# Altium footprint library TOxx.PcbLib: 93 footprints (part 5 of 6)
Each footprint in its own frame and in the unit in brackets; x right, y up, seen from the top. Pads: shape width x height; smd on the part's side, far side on the other; paste and mask are expansions set on the pad; w line width, h text height; cw(c..) or ccw(c..) is an arc to the next point about the centre after c.
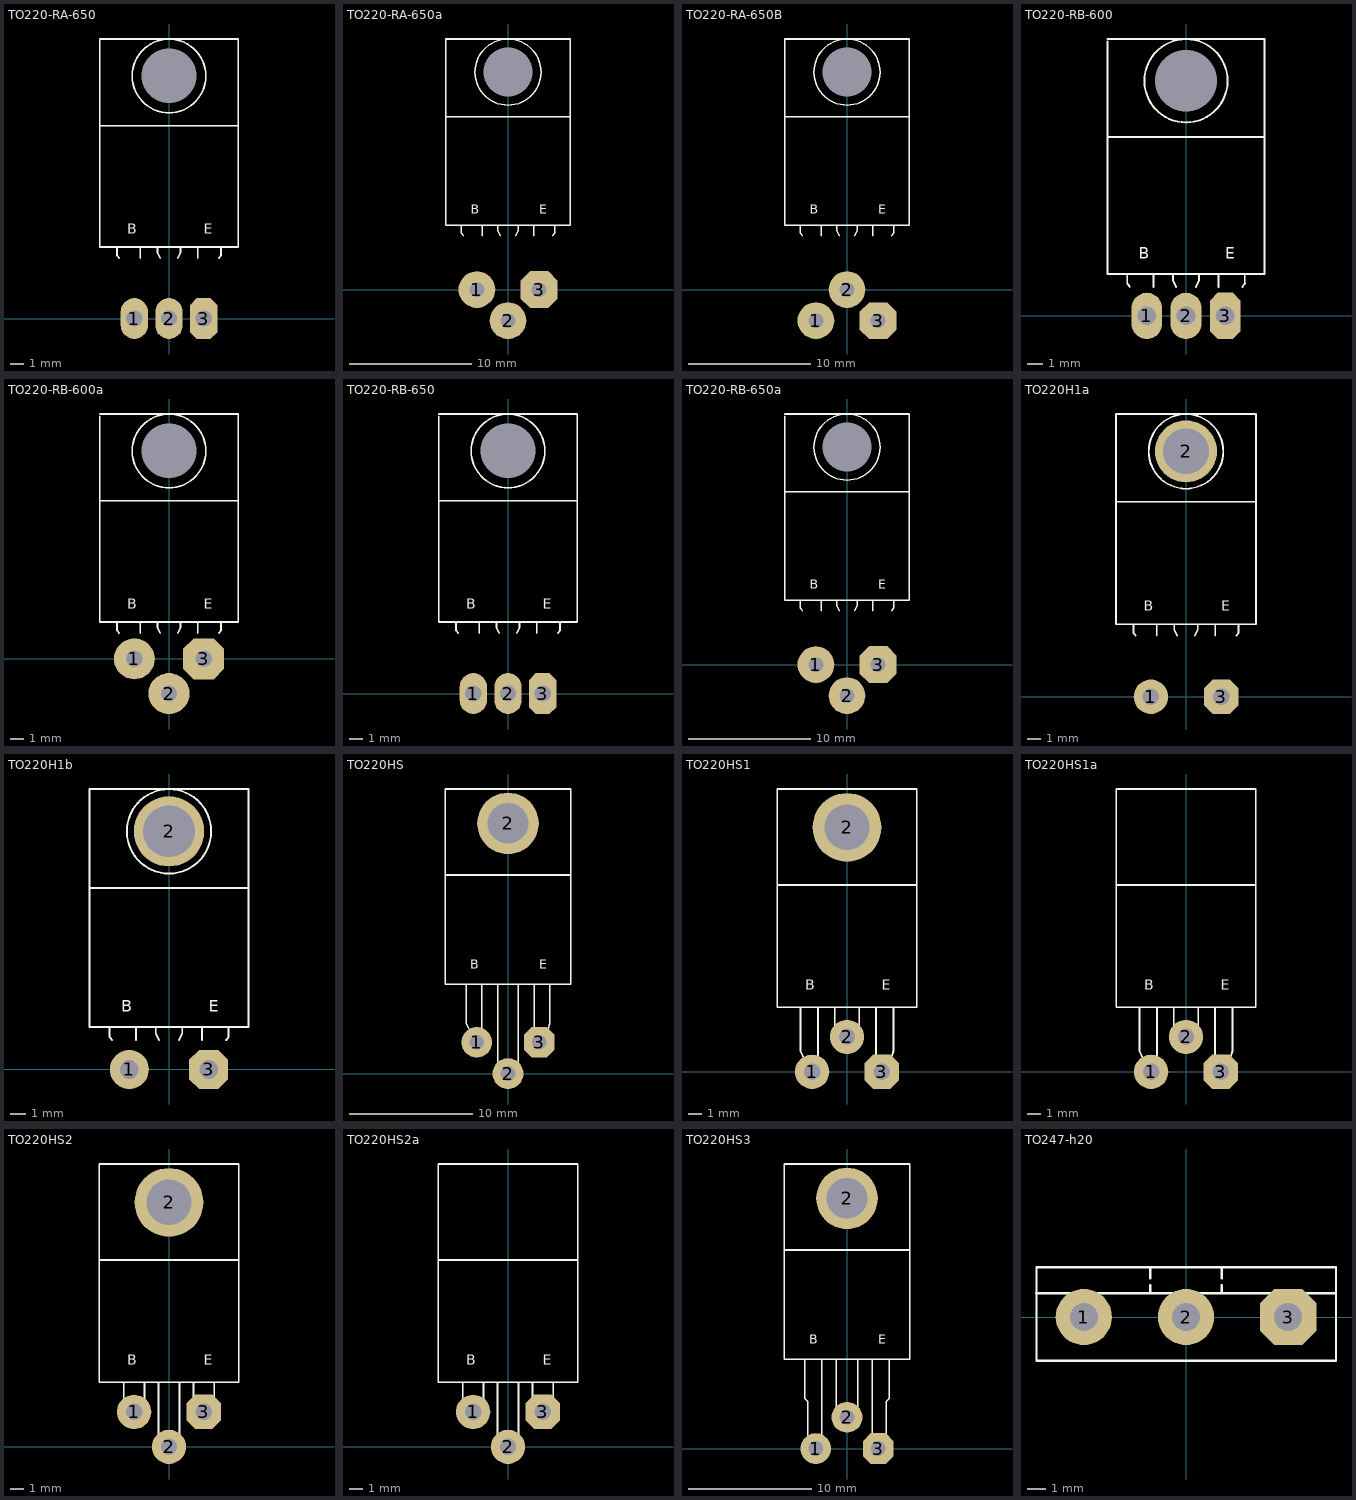
[diagram p4: the footprints below, top view; thin cyan lines are the x and y axes]

## TO220-RA-650 [mm]
pads (4):
  round 0 hole 4 unplated: 0(0,17.78)
  oval 2x3 hole 1.2: 1(-2.54,0) 2(0,0)
  oct 2x3 hole 1.2: 3(2.54,0)
TopOverlay:
  circle w0.125: c0,17.78 r2.7
  lines w0.125: -5.08,14.139 5.08,14.139 ; -3.81,4.614 -3.81,5.249 ; -3.762,4.582 -3.647,4.421 ; -2.117,4.421 -2.117,5.249 ; -0.847,5.249 -0.847,4.826 -0.635,4.421 ; 0.635,4.421 0.847,4.826 0.847,5.249 ; 2.117,4.421 2.117,5.249 ; 3.655,4.421 3.818,4.638 ; 3.81,4.614 3.81,5.249 ; -5.08,5.249 5.08,5.249 5.08,20.489 -5.08,20.489 -5.08,5.249
  text "B" at -3.048,5.969 h1.27
  text "E" at 2.54,5.969 h1.27
3D body: height 4.45, standoff -1.79, extent -5.08,-0.19 5.08,20.36

## TO220-RA-650a [mm]
pads (4):
  round 0 hole 4 unplated: 0(0,17.78)
  round 3 hole 1.2: 1(-2.54,0) 2(0,-2.54)
  oct 3x3 hole 1.2: 3(2.54,0)
TopOverlay:
  circle w0.125: c0,17.78 r2.7
  lines w0.125: -5.08,14.139 5.08,14.139 ; -3.81,4.614 -3.81,5.249 ; -3.762,4.582 -3.647,4.421 ; -2.117,4.421 -2.117,5.249 ; -0.847,5.249 -0.847,4.826 -0.635,4.421 ; 0.635,4.421 0.847,4.826 0.847,5.249 ; 2.117,4.421 2.117,5.249 ; 3.655,4.421 3.818,4.638 ; 3.81,4.614 3.81,5.249 ; -5.08,5.249 5.08,5.249 5.08,20.489 -5.08,20.489 -5.08,5.249
  text "B" at -3.048,5.969 h1.27
  text "E" at 2.54,5.969 h1.27
3D body: height 4.45, standoff -1.79, extent -5.08,-0.19 5.08,20.36

## TO220-RA-650B [mm]
pads (4):
  round 0 hole 4 unplated: 0(0,17.78)
  round 3 hole 1.2: 1(-2.54,-2.54) 2(0,0)
  oct 3x3 hole 1.2: 3(2.54,-2.54)
TopOverlay:
  circle w0.125: c0,17.78 r2.7
  lines w0.125: -5.08,14.139 5.08,14.139 ; -3.81,4.614 -3.81,5.249 ; -3.762,4.582 -3.647,4.421 ; -2.117,4.421 -2.117,5.249 ; -0.847,5.249 -0.847,4.826 -0.635,4.421 ; 0.635,4.421 0.847,4.826 0.847,5.249 ; 2.117,4.421 2.117,5.249 ; 3.655,4.421 3.818,4.638 ; 3.81,4.614 3.81,5.249 ; -5.08,5.249 5.08,5.249 5.08,20.489 -5.08,20.489 -5.08,5.249
  text "B" at -3.048,5.969 h1.27
  text "E" at 2.54,5.969 h1.27
3D body: height 4.45, standoff -1.79, extent -5.08,-0.19 5.08,20.36

## TO220-RB-600 [mm]
pads (4):
  round 0 hole 4 unplated: 0(0,15.24)
  oval 2x3 hole 1.2: 1(-2.54,0) 2(0,0)
  oct 2x3 hole 1.2: 3(2.54,0)
TopOverlay:
  circle w0.125: c0,15.24 r2.7
  lines w0.125: -5.08,11.599 5.08,11.599 ; -5.08,17.78 -5.08,2.709 5.08,2.709 5.08,17.949 -5.08,17.949 ; -3.81,2.074 -3.81,2.709 ; -3.762,2.042 -3.647,1.881 ; -2.117,1.881 -2.117,2.709 ; -0.847,2.709 -0.847,2.286 -0.635,1.881 ; 0.635,1.881 0.847,2.286 0.847,2.709 ; 2.117,1.881 2.117,2.709 ; 3.655,1.881 3.818,2.098 ; 3.81,2.074 3.81,2.709
  text "B" at -3.048,3.429 h1.27
  text "E" at 2.54,3.429 h1.27
3D body: height 0.82, standoff -6.5, extent -5.08,-0.19 5.08,17.78

## TO220-RB-600a [mm]
pads (4):
  round 0 hole 4 unplated: 0(0,15.24)
  round 3 hole 1.2: 1(-2.54,0) 2(0,-2.54)
  oct 3x3 hole 1.2: 3(2.54,0)
TopOverlay:
  circle w0.125: c0,15.24 r2.7
  lines w0.125: -5.08,11.599 5.08,11.599 ; -5.08,17.78 -5.08,2.709 5.08,2.709 5.08,17.949 -5.08,17.949 ; -3.81,2.074 -3.81,2.709 ; -3.762,2.042 -3.647,1.881 ; -2.117,1.881 -2.117,2.709 ; -0.847,2.709 -0.847,2.286 -0.635,1.881 ; 0.635,1.881 0.847,2.286 0.847,2.709 ; 2.117,1.881 2.117,2.709 ; 3.655,1.881 3.818,2.098 ; 3.81,2.074 3.81,2.709
  text "B" at -3.048,3.429 h1.27
  text "E" at 2.54,3.429 h1.27
3D body: height 0.82, standoff -6.5, extent -5.08,-0.19 5.08,17.78

## TO220-RB-650 [mm]
pads (4):
  round 0 hole 4 unplated: 0(0,17.78)
  oval 2x3 hole 1.2: 1(-2.54,0) 2(0,0)
  oct 2x3 hole 1.2: 3(2.54,0)
TopOverlay:
  circle w0.125: c0,17.78 r2.7
  lines w0.125: -5.08,14.139 5.08,14.139 ; -5.08,20.32 -5.08,5.249 5.08,5.249 5.08,20.489 -5.08,20.489 ; -3.81,4.614 -3.81,5.249 ; -3.762,4.582 -3.647,4.421 ; -2.117,4.421 -2.117,5.249 ; -0.847,5.249 -0.847,4.826 -0.635,4.421 ; 0.635,4.421 0.847,4.826 0.847,5.249 ; 2.117,4.421 2.117,5.249 ; 3.655,4.421 3.818,4.638 ; 3.81,4.614 3.81,5.249
  text "E" at 2.54,5.969 h1.27
  text "B" at -3.048,5.969 h1.27
3D body: height 0.22, standoff -6.5, extent -5.08,-0.19 5.08,20.36

## TO220-RB-650a [mm]
pads (4):
  round 0 hole 4 unplated: 0(0,17.78)
  round 3 hole 1.2: 1(-2.54,0) 2(0,-2.54)
  oct 3x3 hole 1.2: 3(2.54,0)
TopOverlay:
  circle w0.125: c0,17.78 r2.7
  lines w0.125: -5.08,14.139 5.08,14.139 ; -5.08,20.32 -5.08,5.249 5.08,5.249 5.08,20.489 -5.08,20.489 ; -3.81,4.614 -3.81,5.249 ; -3.762,4.582 -3.647,4.421 ; -2.117,4.421 -2.117,5.249 ; -0.847,5.249 -0.847,4.826 -0.635,4.421 ; 0.635,4.421 0.847,4.826 0.847,5.249 ; 2.117,4.421 2.117,5.249 ; 3.655,4.421 3.818,4.638 ; 3.81,4.614 3.81,5.249
  text "B" at -3.048,5.969 h1.27
  text "E" at 2.54,5.969 h1.27
3D body: height 0.22, standoff -6.5, extent -5.08,-0.19 5.08,20.36

## TO220H1a [mm]
pads (3):
  round 2.5 hole 1.2: 1(-2.54,0)
  round 4.5 hole 3.302: 2(0,17.78)
  oct 2.5x2.5 hole 1.2: 3(2.54,0)
TopOverlay:
  circle w0.125: c0,17.78 r2.7
  lines w0.125: -5.08,14.139 5.08,14.139 ; -3.81,4.614 -3.81,5.249 ; -3.762,4.582 -3.647,4.421 ; -2.117,4.421 -2.117,5.249 ; -0.847,5.249 -0.847,4.826 -0.635,4.421 ; 0.635,4.421 0.847,4.826 0.847,5.249 ; 2.117,4.421 2.117,5.249 ; 3.655,4.421 3.818,4.638 ; 3.81,4.614 3.81,5.249 ; -5.08,5.249 5.08,5.249 5.08,20.489 -5.08,20.489 -5.08,5.249
  text "B" at -3.048,5.969 h1.27
  text "E" at 2.54,5.969 h1.27
3D body: height 4.45, standoff -1.79, extent -5.08,-0.1 5.08,20.32

## TO220H1b [mm]
pads (3):
  round 2.5 hole 1.2: 1(-2.54,0)
  round 4.5 hole 3.302: 2(0,15.24)
  oct 2.5x2.5 hole 1.2: 3(2.54,0)
TopOverlay:
  circle w0.125: c0,15.24 r2.7
  lines w0.125: -5.08,11.599 5.08,11.599 ; -3.81,2.074 -3.81,2.709 ; -3.762,2.042 -3.647,1.881 ; -2.117,1.881 -2.117,2.709 ; -0.847,2.709 -0.847,2.286 -0.635,1.881 ; 0.635,1.881 0.847,2.286 0.847,2.709 ; 2.117,1.881 2.117,2.709 ; 3.655,1.881 3.818,2.098 ; 3.81,2.074 3.81,2.709 ; -5.08,2.709 5.08,2.709 5.08,17.949 -5.08,17.949 -5.08,2.709
  text "B" at -3.048,3.429 h1.27
  text "E" at 2.54,3.429 h1.27
3D body: height 4.45, standoff -1.79, extent -5.105,-0.34 5.055,17.78

## TO220HS [mm]
pads (4):
  round 2.5 hole 1.2: 1(-2.54,2.54) 2(0,0)
  round 5 hole 3.3: 2(0,20.32)
  oct 2.5x2.5 hole 1.2: 3(2.54,2.54)
TopOverlay:
  lines w0.125: -5.08,16.129 5.08,16.129 ; -3.387,7.239 -3.387,4.064 -3.195,3.659 ; -2.117,3.659 -2.117,7.239 ; -0.847,0.254 -0.847,7.239 ; 0.847,0.254 0.847,7.239 ; 2.117,3.659 2.117,7.239 ; 3.251,3.659 3.387,4.064 3.387,7.239 ; -5.08,7.239 5.08,7.239 5.08,23.114 -5.08,23.114 -5.08,7.239
  text "B" at -3.048,8.255 h1.27
  text "E" at 2.54,8.255 h1.27

## TO220HS1 [mm]
pads (4):
  round 2.5 hole 1.2: 1(-2.54,0) 2(0,2.54)
  round 5 hole 3.3: 2(0,17.78)
  oct 2.5x2.5 hole 1.2: 3(2.54,0)
TopOverlay:
  lines w0.125: -5.08,13.589 5.08,13.589 ; -3.387,4.699 -3.387,1.524 -3.195,1.119 ; -2.117,1.119 -2.117,4.699 ; -0.889,2.54 -0.889,4.699 ; 0.889,2.54 0.889,4.699 ; 2.117,1.119 2.117,4.699 ; 3.251,1.119 3.387,1.524 3.387,4.699 ; -5.08,4.699 -5.08,20.574 5.08,20.574 5.08,4.699 -5.08,4.699
  text "E" at 2.54,5.715 h1.27
  text "B" at -3.048,5.715 h1.27

## TO220HS1a [mm]
pads (3):
  round 2.5 hole 1.2: 1(-2.54,0) 2(0,2.54)
  oct 2.5x2.5 hole 1.2: 3(2.54,0)
TopOverlay:
  lines w0.125: -5.08,13.589 5.08,13.589 ; -3.387,4.699 -3.387,1.524 -3.195,1.119 ; -2.117,1.119 -2.117,4.699 ; -0.889,2.54 -0.889,4.699 ; 0.889,2.54 0.889,4.699 ; 2.117,1.119 2.117,4.699 ; 3.251,1.119 3.387,1.524 3.387,4.699 ; -5.08,4.699 5.08,4.699 5.08,20.574 -5.08,20.574 -5.08,4.699
  text "B" at -3.048,5.715 h1.27
  text "E" at 2.54,5.715 h1.27

## TO220HS2 [mm]
pads (4):
  round 2.5 hole 1.2: 1(-2.54,2.54) 2(0,0)
  round 5 hole 3.3: 2(0,17.78)
  oct 2.5x2.5 hole 1.2: 3(2.54,2.54)
TopOverlay:
  lines w0.125: -5.08,13.589 5.08,13.589 ; -3.302,2.54 -3.302,4.699 ; -1.778,2.54 -1.778,4.699 ; -0.762,0 -0.762,4.699 ; 0.762,0 0.762,4.699 ; 1.778,2.54 1.778,4.699 ; 3.302,2.54 3.302,4.699 ; -5.08,4.699 5.08,4.699 5.08,20.574 -5.08,20.574 -5.08,4.699
  text "B" at -3.048,5.715 h1.27
  text "E" at 2.54,5.715 h1.27

## TO220HS2a [mm]
pads (3):
  round 2.5 hole 1.2: 1(-2.54,2.54) 2(0,0)
  oct 2.5x2.5 hole 1.2: 3(2.54,2.54)
TopOverlay:
  lines w0.125: -5.08,13.589 5.08,13.589 ; -3.302,2.54 -3.302,4.699 ; -1.778,2.54 -1.778,4.699 ; -0.762,0 -0.762,4.699 ; 0.762,0 0.762,4.699 ; 1.778,2.54 1.778,4.699 ; 3.302,2.54 3.302,4.699 ; -5.08,4.699 5.08,4.699 5.08,20.574 -5.08,20.574 -5.08,4.699
  text "B" at -3.048,5.715 h1.27
  text "E" at 2.54,5.715 h1.27

## TO220HS3 [mm]
pads (4):
  round 2.5 hole 1.2: 1(-2.54,0) 2(0,2.54)
  round 5 hole 3.3: 2(0,20.32)
  oct 2.5x2.5 hole 1.2: 3(2.54,0)
TopOverlay:
  lines w0.125: -5.08,16.129 5.08,16.129 ; -3.429,7.239 -3.429,4.064 -3.175,3.81 -3.175,0 -2.032,0 -2.032,7.239 ; -0.889,7.239 -0.889,2.54 0.889,2.54 0.889,7.239 ; 2.032,7.239 2.032,0 3.175,0 3.175,3.81 3.429,4.064 3.429,7.239 ; -5.08,7.239 5.08,7.239 5.08,23.114 -5.08,23.114 -5.08,7.239
  text "B" at -3.048,8.255 h1.27
  text "E" at 2.54,8.255 h1.27
3D body: height 4.45, standoff -1.79, extent -5.08,2.35 5.08,22.77

## TO247-h20 [mm]
pads (3):
  round 3 hole 1.5: 1(-5.45,0) 2(0,0)
  oct 3x3 hole 1.5: 3(5.45,0)
TopOverlay:
  lines w0.125: -8,1.27 8,1.27 ; -1.905,1.27 -1.905,1.693 ; -1.905,2.073 -1.905,2.66 ; 1.905,1.27 1.905,1.693 ; 1.905,2.073 1.905,2.66 ; -7.975,-2.34 8,-2.34 8,2.66 -7.975,2.66 -7.975,-2.34
3D body: height 26.2, standoff -4.38, extent -8,-2.34 8,2.66